# Altium integrated library MAXIM_Display_Power_and_Control.IntLib: 1 symbol
Pins are listed as number, name and electrical type; pins without a type are passive.

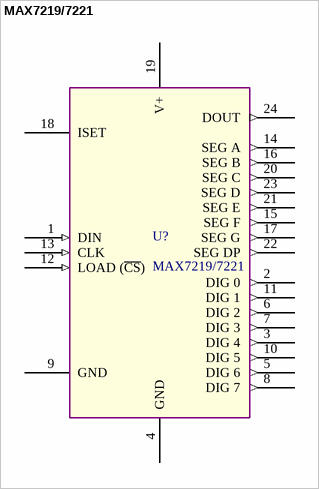
[diagram p0: symbol MAX7219/7221]

## MAX7219/7221
designator U?
Serially Interfaced, 8-Digit LED Display Drivers; Supplier 1: RSComponents; Supplier Part Number 1: 622-9493
footprint SOIC127P1035X25-24 (SOIC IPC-7351C MAX7219/7221_AD)
footprint DIP762W47P254L3213H4572Q24 (IPC-7251C PDIP24 for MAX7219)
pins: 1 DIN (in) "Serial-Data Input. Data is loaded into the internal 16-bit shift register on CLK’s rising edge", 2 DIG 0 (out) "Eight-Digit Drive Lines that sink current from the display common cathode", 3 DIG 4 (out) "Eight-Digit Drive Lines that sink current from the display common cathode", 4 GND (power) "Ground (both GND pins must be connected)", 5 DIG 6 (out) "Eight-Digit Drive Lines that sink current from the display common cathode", 6 DIG 2 (out) "Eight-Digit Drive Lines that sink current from the display common cathode", 7 DIG 3 (out) "Eight-Digit Drive Lines that sink current from the display common cathode", 8 DIG 7 (out) "Eight-Digit Drive Lines that sink current from the display common cathode", 9 GND (power) "Ground (both GND pins must be connected)", 10 DIG 5 (out) "Eight-Digit Drive Lines that sink current from the display common cathode", 11 DIG 1 (out) "Eight-Digit Drive Lines that sink current from the display common cathode", 12 LOAD (~{CS}) (in) "MAX7219: Load-Data Input. The last 16 bits of serial data are latched on LOAD’s rising edge. | MAX7221: Chip-Select Input. Serial data is loaded into the shift register while CS is low. The last 16 bits of  serial data are latched on CS’s rising edge.", 13 CLK (in) "Serial-Clock Input. 10MHz maximum rate", 14 SEG A (out) "Seven Segment Drives and Decimal Point Drive that source current to the display", 15 SEG F (out) "Seven Segment Drives and Decimal Point Drive that source current to the display", 16 SEG B (out) "Seven Segment Drives and Decimal Point Drive that source current to the display", 17 SEG G (out) "Seven Segment Drives and Decimal Point Drive that source current to the display", 18 ISET "Connect to VDD through a resistor (RSET) to set the peak segment current", 19 V+ (power) "Positive Supply Voltage. Connect to +5V.", 20 SEG C (out) "Seven Segment Drives and Decimal Point Drive that source current to the display", 21 SEG E (out) "Seven Segment Drives and Decimal Point Drive that source current to the display", 22 SEG DP (out) "Seven Segment Drives and Decimal Point Drive that source current to the display", 23 SEG D (out) "Seven Segment Drives and Decimal Point Drive that source current to the display", 24 DOUT (out) "Serial-Data Output. The data into DIN is valid at DOUT 16.5 clock cycles later"